# EAGLE library part LPC2378 (library _GpsAttitude)
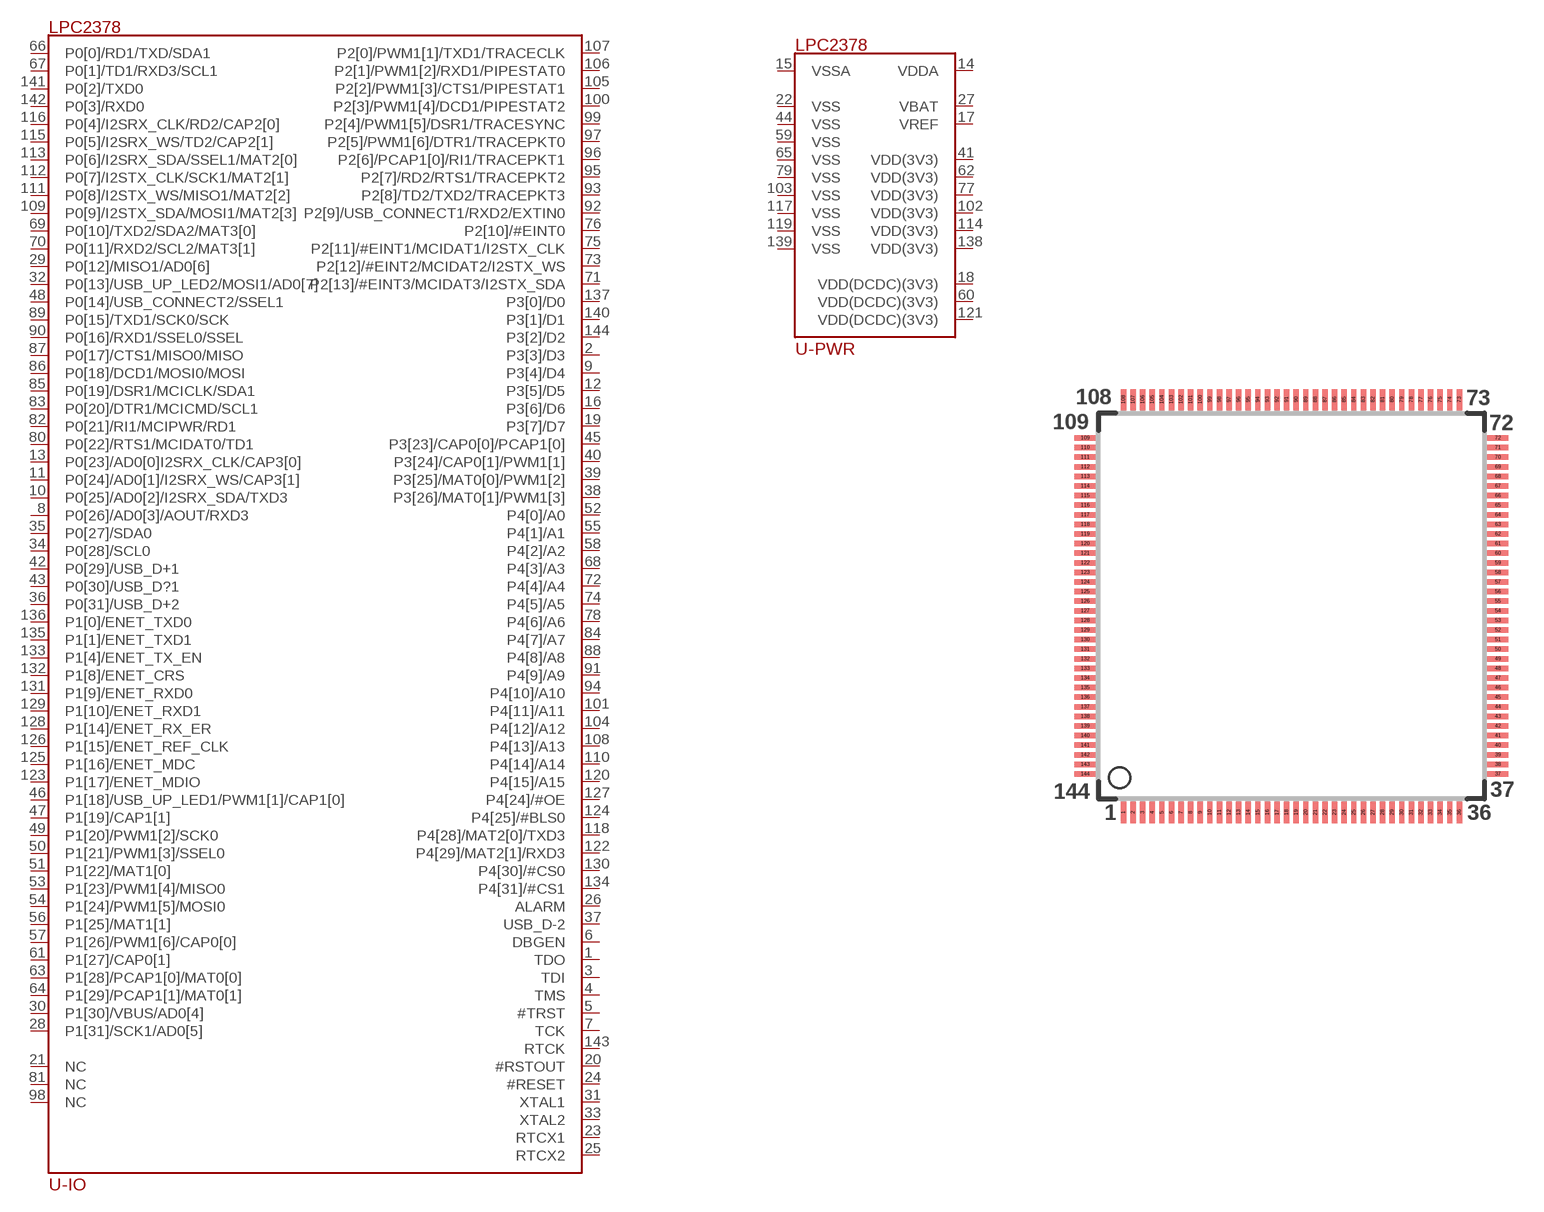
[diagram p0: symbol with the pads of LQFP144; footprint LQFP144]

Designator prefix U; gates -IO=LPC2378_IO -PWR=LPC2378_PWR

## LPC2378  [LQFP144]
1  -IO:TDO
2  -IO:P3[3]/D3
3  -IO:TDI
4  -IO:TMS
5  -IO:#TRST
6  -IO:DBGEN
7  -IO:TCK
8  -IO:P0[26]/AD0[3]/AOUT/RXD3
9  -IO:P3[4]/D4
10  -IO:P0[25]/AD0[2]/I2SRX_SDA/TXD3
11  -IO:P0[24]/AD0[1]/I2SRX_WS/CAP3[1]
12  -IO:P3[5]/D5
13  -IO:P0[23]/AD0[0]I2SRX_CLK/CAP3[0]
14  -PWR:VDDA
15  -PWR:VSSA
16  -IO:P3[6]/D6
17  -PWR:VREF
18  -PWR:VDD(DCDC)(3V3)
19  -IO:P3[7]/D7
20  -IO:#RSTOUT
21  -IO:NC
22  -PWR:VSS
23  -IO:RTCX1
24  -IO:#RESET
25  -IO:RTCX2
26  -IO:ALARM
27  -PWR:VBAT
28  -IO:P1[31]/SCK1/AD0[5]
29  -IO:P0[12]/MISO1/AD0[6]
30  -IO:P1[30]/VBUS/AD0[4]
31  -IO:XTAL1
32  -IO:P0[13]/USB_UP_LED2/MOSI1/AD0[7]
33  -IO:XTAL2
34  -IO:P0[28]/SCL0
35  -IO:P0[27]/SDA0
36  -IO:P0[31]/USB_D+2
37  -IO:USB_D-2
38  -IO:P3[26]/MAT0[1]/PWM1[3]
39  -IO:P3[25]/MAT0[0]/PWM1[2]
40  -IO:P3[24]/CAP0[1]/PWM1[1]
41  -PWR:VDD(3V3)
42  -IO:P0[29]/USB_D+1
43  -IO:P0[30]/USB_D?1
44  -PWR:VSS
45  -IO:P3[23]/CAP0[0]/PCAP1[0]
46  -IO:P1[18]/USB_UP_LED1/PWM1[1]/CAP1[0]
47  -IO:P1[19]/CAP1[1]
48  -IO:P0[14]/USB_CONNECT2/SSEL1
49  -IO:P1[20]/PWM1[2]/SCK0
50  -IO:P1[21]/PWM1[3]/SSEL0
51  -IO:P1[22]/MAT1[0]
52  -IO:P4[0]/A0
53  -IO:P1[23]/PWM1[4]/MISO0
54  -IO:P1[24]/PWM1[5]/MOSI0
55  -IO:P4[1]/A1
56  -IO:P1[25]/MAT1[1]
57  -IO:P1[26]/PWM1[6]/CAP0[0]
58  -IO:P4[2]/A2
59  -PWR:VSS
60  -PWR:VDD(DCDC)(3V3)
61  -IO:P1[27]/CAP0[1]
62  -PWR:VDD(3V3)
63  -IO:P1[28]/PCAP1[0]/MAT0[0]
64  -IO:P1[29]/PCAP1[1]/MAT0[1]
65  -PWR:VSS
66  -IO:P0[0]/RD1/TXD/SDA1
67  -IO:P0[1]/TD1/RXD3/SCL1
68  -IO:P4[3]/A3
69  -IO:P0[10]/TXD2/SDA2/MAT3[0]
70  -IO:P0[11]/RXD2/SCL2/MAT3[1]
71  -IO:P2[13]/#EINT3/MCIDAT3/I2STX_SDA
72  -IO:P4[4]/A4
73  -IO:P2[12]/#EINT2/MCIDAT2/I2STX_WS
74  -IO:P4[5]/A5
75  -IO:P2[11]/#EINT1/MCIDAT1/I2STX_CLK
76  -IO:P2[10]/#EINT0
77  -PWR:VDD(3V3)
78  -IO:P4[6]/A6
79  -PWR:VSS
80  -IO:P0[22]/RTS1/MCIDAT0/TD1
81  -IO:NC
82  -IO:P0[21]/RI1/MCIPWR/RD1
83  -IO:P0[20]/DTR1/MCICMD/SCL1
84  -IO:P4[7]/A7
85  -IO:P0[19]/DSR1/MCICLK/SDA1
86  -IO:P0[18]/DCD1/MOSI0/MOSI
87  -IO:P0[17]/CTS1/MISO0/MISO
88  -IO:P4[8]/A8
89  -IO:P0[15]/TXD1/SCK0/SCK
90  -IO:P0[16]/RXD1/SSEL0/SSEL
91  -IO:P4[9]/A9
92  -IO:P2[9]/USB_CONNECT1/RXD2/EXTIN0
93  -IO:P2[8]/TD2/TXD2/TRACEPKT3
94  -IO:P4[10]/A10
95  -IO:P2[7]/RD2/RTS1/TRACEPKT2
96  -IO:P2[6]/PCAP1[0]/RI1/TRACEPKT1
97  -IO:P2[5]/PWM1[6]/DTR1/TRACEPKT0
98  -IO:NC
99  -IO:P2[4]/PWM1[5]/DSR1/TRACESYNC
100  -IO:P2[3]/PWM1[4]/DCD1/PIPESTAT2
101  -IO:P4[11]/A11
102  -PWR:VDD(3V3)
103  -PWR:VSS
104  -IO:P4[12]/A12
105  -IO:P2[2]/PWM1[3]/CTS1/PIPESTAT1
106  -IO:P2[1]/PWM1[2]/RXD1/PIPESTAT0
107  -IO:P2[0]/PWM1[1]/TXD1/TRACECLK
108  -IO:P4[13]/A13
109  -IO:P0[9]/I2STX_SDA/MOSI1/MAT2[3]
110  -IO:P4[14]/A14
111  -IO:P0[8]/I2STX_WS/MISO1/MAT2[2]
112  -IO:P0[7]/I2STX_CLK/SCK1/MAT2[1]
113  -IO:P0[6]/I2SRX_SDA/SSEL1/MAT2[0]
114  -PWR:VDD(3V3)
115  -IO:P0[5]/I2SRX_WS/TD2/CAP2[1]
116  -IO:P0[4]/I2SRX_CLK/RD2/CAP2[0]
117  -PWR:VSS
118  -IO:P4[28]/MAT2[0]/TXD3
119  -PWR:VSS
120  -IO:P4[15]/A15
121  -PWR:VDD(DCDC)(3V3)
122  -IO:P4[29]/MAT2[1]/RXD3
123  -IO:P1[17]/ENET_MDIO
124  -IO:P4[25]/#BLS0
125  -IO:P1[16]/ENET_MDC
126  -IO:P1[15]/ENET_REF_CLK
127  -IO:P4[24]/#OE
128  -IO:P1[14]/ENET_RX_ER
129  -IO:P1[10]/ENET_RXD1
130  -IO:P4[30]/#CS0
131  -IO:P1[9]/ENET_RXD0
132  -IO:P1[8]/ENET_CRS
133  -IO:P1[4]/ENET_TX_EN
134  -IO:P4[31]/#CS1
135  -IO:P1[1]/ENET_TXD1
136  -IO:P1[0]/ENET_TXD0
137  -IO:P3[0]/D0
138  -PWR:VDD(3V3)
139  -PWR:VSS
140  -IO:P3[1]/D1
141  -IO:P0[2]/TXD0
142  -IO:P0[3]/RXD0
143  -IO:RTCK
144  -IO:P3[2]/D2

## Footprint LQFP144 (pad centres in mm)
smd 0.285 x 1.1: 1 -8.75,-10.752; 2 -8.25,-10.752; 3 -7.75,-10.752; 4 -7.25,-10.752; 5 -6.75,-10.752; 6 -6.25,-10.752; 7 -5.75,-10.752; 8 -5.25,-10.752; 9 -4.75,-10.752; 10 -4.25,-10.752; 11 -3.75,-10.752; 12 -3.25,-10.752; 13 -2.75,-10.752; 14 -2.25,-10.752; 15 -1.75,-10.752; 16 -1.25,-10.752; 17 -0.75,-10.752; 18 -0.25,-10.752; 19 0.25,-10.752; 20 0.75,-10.752; 21 1.25,-10.752; 22 1.75,-10.752; 23 2.25,-10.752; 24 2.75,-10.752; 25 3.25,-10.752; 26 3.75,-10.752; 27 4.25,-10.752; 28 4.75,-10.752; 29 5.25,-10.752; 30 5.75,-10.752; 31 6.25,-10.752; 32 6.75,-10.752; 33 7.25,-10.752; 34 7.75,-10.752; 35 8.25,-10.752; 36 8.75,-10.752; 73 8.75,10.752; 74 8.25,10.752; 75 7.75,10.752; 76 7.25,10.752; 77 6.75,10.752; 78 6.25,10.752; 79 5.75,10.752; 80 5.25,10.752; 81 4.75,10.752; 82 4.25,10.752; 83 3.75,10.752; 84 3.25,10.752; 85 2.75,10.752; 86 2.25,10.752; 87 1.75,10.752; 88 1.25,10.752; 89 0.75,10.752; 90 0.25,10.752; 91 -0.25,10.752; 92 -0.75,10.752; 93 -1.25,10.752; 94 -1.75,10.752; 95 -2.25,10.752; 96 -2.75,10.752; 97 -3.25,10.752; 98 -3.75,10.752; 99 -4.25,10.752; 100 -4.75,10.752; 101 -5.25,10.752; 102 -5.75,10.752; 103 -6.25,10.752; 104 -6.75,10.752; 105 -7.25,10.752; 106 -7.75,10.752; 107 -8.25,10.752; 108 -8.75,10.752
smd 1.1 x 0.285: 37 10.752,-8.75; 38 10.752,-8.25; 39 10.752,-7.75; 40 10.752,-7.25; 41 10.752,-6.75; 42 10.752,-6.25; 43 10.752,-5.75; 44 10.752,-5.25; 45 10.752,-4.75; 46 10.752,-4.25; 47 10.752,-3.75; 48 10.752,-3.25; 49 10.752,-2.75; 50 10.752,-2.25; 51 10.752,-1.75; 52 10.752,-1.25; 53 10.752,-0.75; 54 10.752,-0.25; 55 10.752,0.25; 56 10.752,0.75; 57 10.752,1.25; 58 10.752,1.75; 59 10.752,2.25; 60 10.752,2.75; 61 10.752,3.25; 62 10.752,3.75; 63 10.752,4.25; 64 10.752,4.75; 65 10.752,5.25; 66 10.752,5.75; 67 10.752,6.25; 68 10.752,6.75; 69 10.752,7.25; 70 10.752,7.75; 71 10.752,8.25; 72 10.752,8.75; 109 -10.752,8.75; 110 -10.752,8.25; 111 -10.752,7.75; 112 -10.752,7.25; 113 -10.752,6.75; 114 -10.752,6.25; 115 -10.752,5.75; 116 -10.752,5.25; 117 -10.752,4.75; 118 -10.752,4.25; 119 -10.752,3.75; 120 -10.752,3.25; 121 -10.752,2.75; 122 -10.752,2.25; 123 -10.752,1.75; 124 -10.752,1.25; 125 -10.752,0.75; 126 -10.752,0.25; 127 -10.752,-0.25; 128 -10.752,-0.75; 129 -10.752,-1.25; 130 -10.752,-1.75; 131 -10.752,-2.25; 132 -10.752,-2.75; 133 -10.752,-3.25; 134 -10.752,-3.75; 135 -10.752,-4.25; 136 -10.752,-4.75; 137 -10.752,-5.25; 138 -10.752,-5.75; 139 -10.752,-6.25; 140 -10.752,-6.75; 141 -10.752,-7.25; 142 -10.752,-7.75; 143 -10.752,-8.25; 144 -10.752,-8.75